# Altium footprint library PCB2021.01270750.PcbLib: 52 footprints (part 1 of 4)
Each footprint in its own frame and in the unit in brackets; x right, y up, seen from the top. Pads: shape width x height; smd on the part's side, far side on the other; paste and mask are expansions set on the pad; w line width, h text height; cw(c..) or ccw(c..) is an arc to the next point about the centre after c.
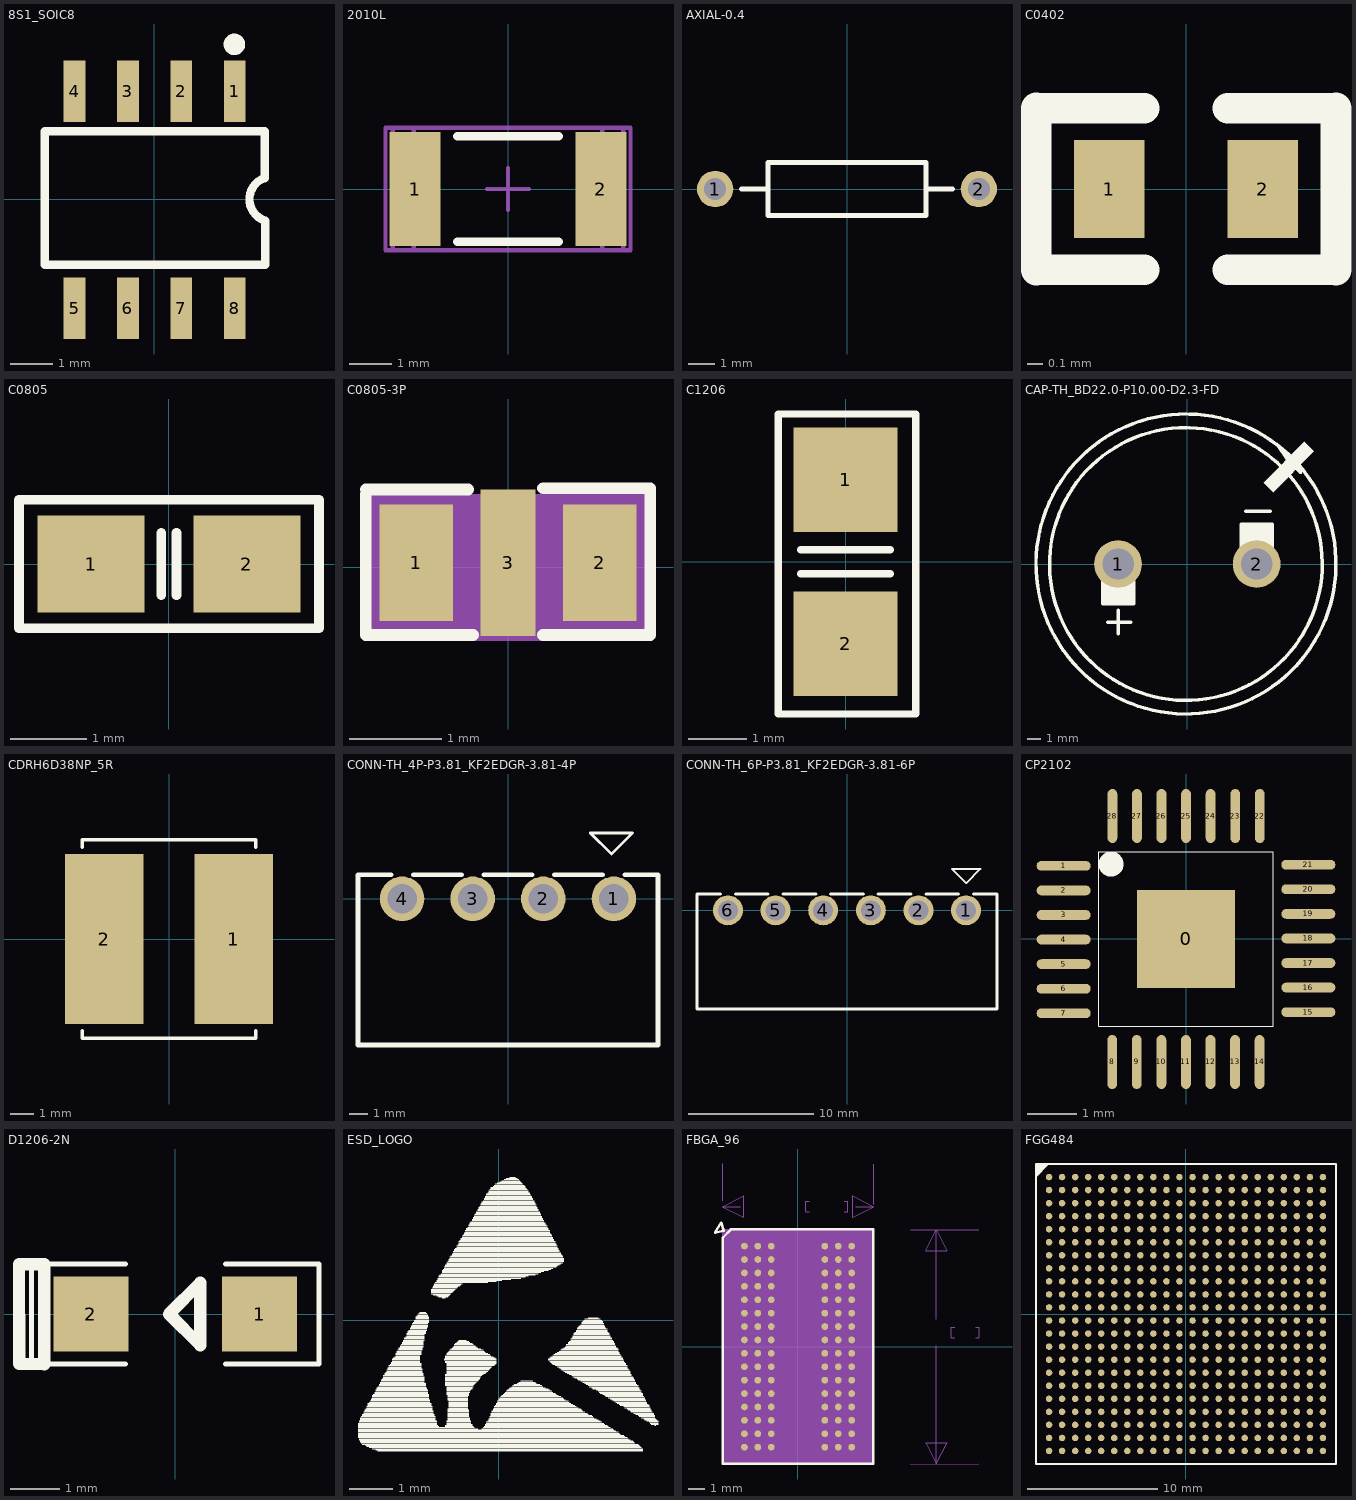
[diagram p0: the footprints below, top view; thin cyan lines are the x and y axes]

## 8S1_SOIC8 [mm] "8S1_SOIC8"
pads (8):
  rect 0.518x1.458 smd: 1(1.912,2.564) 2(0.642,2.564) 3(-0.628,2.564) 4(-1.898,2.564) 5(-1.898,-2.595) 6(-0.628,-2.595) 7(0.642,-2.595) 8(1.912,-2.595)
Top Overlay:
  circle w0.254: c1.905,3.683 r0.128
  lines w0.2: 2.625,0.504 ccw(c2.794,0) 2.637,-0.508
  lines w0.203: 2.625,0.504 2.625,1.615 -2.608,1.615 -2.608,-1.557 2.638,-1.557 2.638,-0.655 2.638,-0.508

## 2010L [mm] "pitch=4.3mm"
height 0.71
pads (2):
  rect 1.2x2.7 smd: 1(-2.2,0) 2(2.2,0)
Top Overlay:
  lines w0.2: -1.2,-1.25 1.2,-1.25 ; -1.2,1.25 1.2,1.25
Mechanical 5:
  lines w0.1: -2.73,-1.45 -2.73,1.45 2.73,1.45 2.73,-1.45 -2.73,-1.45
  text ".Designator" at 4.191,-0.508 h0.25
Mechanical 13:
  lines w0.1: -2.23,-1.45 -2.23,1.45 ; 2.23,-1.45 2.23,1.45 ; -2.73,-1.45 2.73,-1.45 2.73,1.45 -2.73,1.45 -2.73,-1.45
Mechanical 15:
  lines w0.1: -0.5,0 0.5,0 ; 0,-0.5 0,0.5 ; -2.9,-1.45 -2.9,1.45 2.9,1.45 2.9,-1.45 -2.9,-1.45
3D body: height 1.66, standoff 0, extent -2.729,-1.449 -2.231,1.449
3D body: height 1.66, standoff 0, extent -2.229,-1.449 2.229,1.449
3D body: height 1.66, standoff 0, extent 2.231,-1.449 2.729,1.449

## AXIAL-0.4 [mm] "Axial Device, Thru-Hole; 2 Leads; 0.4 in Pin Spacing"
height 2.032
pads (2):
  round 1.4 hole 0.85: 1(-5.08,0) 2(5.08,0)
Top Overlay:
  lines w0.2: -4.064,0 -3.048,0 ; 3.048,0 4.064,0 ; -3.048,-1.016 3.048,-1.016 3.048,1.016 -3.048,1.016 -3.048,-1.016

## C0402 [mil] "C0402"
pads (2):
  rect 18x25 smd: 1(-19.69,0) 2(19.69,0)
Top Overlay:
  lines w7.87: -38.43,-20.69 -10.69,-20.69 ; -38.43,20.69 -10.69,20.69 ; 10.69,-20.69 38.43,-20.69 ; 10.69,20.69 38.43,20.69
  lines w8: -38.43,-20.69 -38.43,20.69 ; 38.43,-20.69 38.43,20.69

## C0805 [mil]
pads (2):
  rect 55x50 smd: 1(-40,0) 2(40,0)
Top Overlay:
  lines w5: -4,-16 -4,16 ; 3.87,-16 3.87,16 ; -77,-33 77,-33 77,33 -77,33 -77,-33

## C0805-3P [mm] "C0805，NFM or NFL"
pads (3):
  rect 0.8x1.27 smd: 1(-1,0.051) 2(1,0.051)
  rect 0.6x1.6 smd: 3(0,0.051)
Top Overlay:
  lines w0.127: -1.549,-0.737 -0.381,-0.737 ; -1.549,-0.724 -1.549,0.8 ; -1.549,0.851 -0.432,0.851 ; 0.381,-0.737 1.549,-0.737 ; 0.381,0.864 1.549,0.864 1.549,-0.711
Mechanical 10:
  text "1" at -0.838,-0.203 h0.25
  text "2" at 0.838,-0.203 h0.25
Mechanical 12:
  region: -1.549,-0.787 1.549,-0.787 1.549,0.787 -1.549,0.787
Mechanical 13:
  lines w0.025: -1.549,-0.787 1.549,-0.787 1.549,0.787 -1.549,0.787 -1.549,-0.787
3D body: height 3.81, standoff 0, extent -1.549,-0.787 1.549,0.787

## C1206 [mil]
pads (2):
  rect 70x70 smd: 1(0,55) 2(0,-55)
Top Overlay:
  lines w5: -30,-8 30,-8 ; -30,8 30,8 ; -45,-102 -45,99 47,99 47,-102 -45,-102

## CAP-TH_BD22.0-P10.00-D2.3-FD [mm]
height 0.8
pads (2):
  round 3.5 hole 2.3: 1(-5.08,0) 2(5.08,0)
Top Overlay:
  region: -4.008,-1.146 -6.167,-1.146 -6.167,-2.797 -4.008,-2.797
  region: 6.477,8.763 6.985,8.382 7.239,8.255 8.128,7.366 8.128,7.239 8.509,6.858 8.382,6.731 8.382,6.604 8.255,6.604 7.239,7.62
  region: 3.892,2.854 6.178,2.854 6.178,1.33 3.892,1.33
  region: 5.588,5.969 8.572,8.953 9.271,8.255 6.286,5.27
  lines w0.254: -6.223,-1.27 -6.223,-2.921 -3.937,-2.921 -3.937,-1.27 ; -5.842,-4.267 -4.166,-4.267 ; -5.055,-5.105 -5.055,-3.378 ; -0.051,10 ccw(c-0.108,0) 0.124,9.997 ; -0.051,11.001 ccw(c-0.099,0.001) 0.142,10.998 ; 3.937,1.27 3.937,2.921 6.223,2.921 6.223,1.27 ; 4.292,3.854 6.07,3.854

## CDRH6D38NP_5R [mm] "CDRH6D38NP_5R,magnetica shield,7x7mm"
height 4
pads (2):
  rect 3.424x7.42 smd: 1(2.828,0) 2(-2.828,0)
Top Overlay:
  lines w0.152: -3.776,-3.989 -3.776,-4.318 3.776,-4.318 3.776,-3.989 ; -3.776,3.989 -3.776,4.318 3.776,4.318 3.776,3.989

## CONN-TH_4P-P3.81_KF2EDGR-3.81-4P [mm]
pads (4):
  round 2.4 hole 1.6: 1(5.715,0) 2(1.905,0) 3(-1.905,0) 4(-5.715,0)
Top Overlay:
  lines w0.152: 4.445,3.556 5.588,2.413 6.731,3.556 4.445,3.556
  lines w0.254: -6.31,1.3 -8.1,1.3 -8.1,-7.9 8.1,-7.9 8.1,1.3 6.31,1.3 ; -5.12,1.3 -2.5,1.3 ; -1.31,1.3 1.31,1.3 ; 2.5,1.3 5.12,1.3

## CONN-TH_6P-P3.81_KF2EDGR-3.81-6P [mm]
pads (6):
  round 2.4 hole 1.6: 1(9.525,0) 2(5.715,0) 3(1.905,0) 4(-1.905,0) 5(-5.715,0) 6(-9.525,0)
Top Overlay:
  lines w0.152: 8.382,3.302 9.525,2.159 10.668,3.302 8.382,3.302
  lines w0.254: -10.12,1.3 -12,1.3 -12,-7.9 12,-7.9 12,1.3 10.12,1.3 ; -8.93,1.3 -6.31,1.3 ; -5.12,1.3 -2.5,1.3 ; -1.31,1.3 1.31,1.3 ; 2.5,1.3 5.12,1.3 ; 6.31,1.3 8.93,1.3

## CP2102 [mm]
height 1.1
pads (29):
  rect 2x2 smd: 0(0,0)
  oval 1.1x0.2 smd: 1(-2.489,1.489) 2(-2.489,0.989) 3(-2.489,0.489) 4(-2.489,-0.011) 5(-2.489,-0.511) 6(-2.489,-1.011) 7(-2.489,-1.511) 15(2.489,-1.489) 16(2.489,-0.989) 17(2.489,-0.489) 18(2.489,0.011) 19(2.489,0.511) 20(2.489,1.011) 21(2.489,1.511)
  oval 0.2x1.1 smd: 8(-1.501,-2.502) 9(-1.001,-2.502) 10(-0.501,-2.502) 11(-0.001,-2.502) 12(0.499,-2.502) 13(0.999,-2.502) 14(1.499,-2.502) 22(1.501,2.502) 23(1.001,2.502) 24(0.501,2.502) 25(0.001,2.502) 26(-0.499,2.502) 27(-0.999,2.502) 28(-1.499,2.502)
Top Overlay:
  circle w0.254: c-1.524,1.524 r0.127
  lines w0.025: -1.778,-1.778 -1.778,1.778 1.778,1.778 1.778,-1.778 -1.778,-1.778

## D1206-2N [mil]
height 39.37
pads (2):
  rect 60x60 smd: 1(67.5,0) 2(-67.5,0)
Top Overlay:
  lines w4: -40,-40 -115,-40 -115,40 -40,40 ; 40,-40 115,-40 115,40 40,40
  lines w10: -125,-40 -105,-40 -105,40 -125,40 -125,-40 ; -5,0 20,25 20,-25 -5,0

## ESD_LOGO [mm]
height 1.1
Top Overlay:
  drawing of 457 lines, arcs and shapes, not listed

## FBGA_96 [mil] "FBGA_96"
pads (96):
  round 15.75 smd: A1(-125.5,236.22) A2(-94,236.22) A3(-62.51,236.22) A7(63.48,236.22) A8(94.97,236.22) A9(126.47,236.22) B1(-125.5,204.72) B2(-94,204.72) B3(-62.51,204.72) B7(63.48,204.72) B8(94.97,204.72) B9(126.47,204.72) C1(-125.5,173.23) C2(-94,173.23) C3(-62.51,173.23) C7(63.48,173.23) C8(94.97,173.23) C9(126.47,173.23) D1(-125.5,141.73) D2(-94,141.73) D3(-62.51,141.73) D7(63.48,141.73) D8(94.97,141.73) D9(126.47,141.73) E1(-125.5,110.24) E2(-94,110.24) E3(-62.51,110.24) E7(63.48,110.24) E8(94.97,110.24) E9(126.47,110.24) F1(-125.5,78.74) F2(-94,78.74) F3(-62.51,78.74) F7(63.48,78.74) F8(94.97,78.74) F9(126.47,78.74) G1(-125.5,47.24) G2(-94,47.24) G3(-62.51,47.24) G7(63.48,47.24) G8(94.97,47.24) G9(126.47,47.24) H1(-125.5,15.75) H2(-94,15.75) H3(-62.51,15.75) H7(63.48,15.75) H8(94.97,15.75) H9(126.47,15.75) J1(-125.5,-15.75) J2(-94,-15.75) J3(-62.51,-15.75) J7(63.48,-15.75) J8(94.97,-15.75) J9(126.47,-15.75) K1(-125.5,-47.24) K2(-94,-47.24) K3(-62.51,-47.24) K7(63.48,-47.24) K8(94.97,-47.24) K9(126.47,-47.24) L1(-125.5,-78.74) L2(-94,-78.74) L3(-62.51,-78.74) L7(63.48,-78.74) L8(94.97,-78.74) L9(126.47,-78.74) M1(-125.5,-110.24) M2(-94,-110.24) M3(-62.51,-110.24) M7(63.48,-110.24) M8(94.97,-110.24) M9(126.47,-110.24) N1(-125.5,-141.73) N2(-94,-141.73) N3(-62.51,-141.73) N7(63.48,-141.73) N8(94.97,-141.73) N9(126.47,-141.73) P1(-125.5,-173.23) P2(-94,-173.23) P3(-62.51,-173.23) P7(63.48,-173.23) P8(94.97,-173.23) P9(126.47,-173.23) R1(-125.5,-204.72) R2(-94,-204.72) R3(-62.51,-204.72) R7(63.48,-204.72) R8(94.97,-204.72) R9(126.47,-204.72) T1(-125.5,-236.22) T2(-94,-236.22) T3(-62.51,-236.22) T7(63.48,-236.22) T8(94.97,-236.22) T9(126.47,-236.22)
Top Overlay:
  lines w5: -175.37,257.22 -158.43,274.15
  lines w6: -176.68,256.22 -176.68,-275.59 177.65,-275.59 177.65,275.59 -157.5,275.59 ; -194.5,268.22 -180.5,291.22 -174.5,272.22 -194.5,268.22
Mechanical 8:
  text "G2" at -94,27.24 h25
  text "F8" at 94.97,58.74 h25
  text "A7" at 63.48,216.22 h25
  text "C3" at -62.51,153.23 h25
  text "F2" at -94,58.74 h25
  text "G3" at -62.51,27.24 h25
  text "H3" at -62.51,-4.25 h25
  text "T7" at 63.48,-256.22 h25
  text "L8" at 94.97,-98.74 h25
  text "D7" at 63.48,121.73 h25
  text "E3" at -62.51,90.24 h25
  text "F7" at 63.48,58.74 h25
  text "C2" at -94,153.23 h25
  text "E7" at 63.48,90.24 h25
  text "C7" at 63.48,153.23 h25
  text "M8" at 94.97,-130.24 h25
  text "H1" at -125.5,-4.25 h25
  text "D3" at -62.51,121.73 h25
  text "R9" at 126.47,-224.72 h25
  text "K8" at 94.97,-67.24 h25
  text "N9" at 126.47,-161.73 h25
  text "H9" at 126.47,-4.25 h25
  text "E9" at 126.47,90.24 h25
  text "D9" at 126.47,121.73 h25
  text "C9" at 126.47,153.23 h25
  text "G7" at 63.48,27.24 h25
  text "A8" at 94.97,216.22 h25
  text "R1" at -125.5,-224.72 h25
  text "K2" at -94,-67.24 h25
  text "N1" at -125.5,-161.73 h25
  text "F1" at -125.5,58.74 h25
  text "A1" at -125.5,216.22 h25
  text "C1" at -125.5,153.23 h25
  text "B2" at -94,184.72 h25
  text "D2" at -94,121.73 h25
  text "H2" at -94,-4.25 h25
  text "A2" at -94,216.22 h25
  text "H8" at 94.97,-4.25 h25
  text "C8" at 94.97,153.23 h25
  text "T2" at -94,-256.22 h25
  text "J7" at 63.48,-35.75 h25
  text "B8" at 94.97,184.72 h25
  text "K7" at 63.48,-67.24 h25
  text "A3" at -62.51,216.22 h25
  text "H7" at 63.48,-4.25 h25
  text "B7" at 63.48,184.72 h25
  text "F3" at -62.51,58.74 h25
  text "J1" at -125.5,-35.75 h25
  text "J9" at 126.47,-35.75 h25
  text "L1" at -125.5,-98.74 h25
  text "L9" at 126.47,-98.74 h25
  text "M7" at 63.48,-130.24 h25
  text "K1" at -125.5,-67.24 h25
  text "K3" at -62.51,-67.24 h25
  text "M2" at -94,-130.24 h25
  text "M3" at -62.51,-130.24 h25
  text "L3" at -62.51,-98.74 h25
  text "L2" at -94,-98.74 h25
  text "J3" at -62.51,-35.75 h25
  text "N7" at 63.48,-161.73 h25
  text "K9" at 126.47,-67.24 h25
  text "R3" at -62.51,-224.72 h25
  text "P7" at 63.48,-193.23 h25
  text "L7" at 63.48,-98.74 h25
  text "R2" at -94,-224.72 h25
  text "T3" at -62.51,-256.22 h25
  text "P3" at -62.51,-193.23 h25
  text "T8" at 94.97,-256.22 h25
  text "R7" at 63.48,-224.72 h25
  text "P2" at -94,-193.23 h25
  text "R8" at 94.97,-224.72 h25
  text "N2" at -94,-161.73 h25
  text "P8" at 94.97,-193.23 h25
  text "N3" at -62.51,-161.73 h25
  text "N8" at 94.97,-161.73 h25
  text "T9" at 126.47,-256.22 h25
  text "P9" at 126.47,-193.23 h25
  text "M9" at 126.47,-130.24 h25
  text "J8" at 94.97,-35.75 h25
  text "E8" at 94.97,90.24 h25
  text "F9" at 126.47,58.74 h25
  text "G9" at 126.47,27.24 h25
  text "G8" at 94.97,27.24 h25
  text "D8" at 94.97,121.73 h25
  text "B9" at 126.47,184.72 h25
  text "A9" at 126.47,216.22 h25
  text "B3" at -62.51,184.72 h25
  text "T1" at -125.5,-256.22 h25
  text "P1" at -125.5,-193.23 h25
  text "M1" at -125.5,-130.24 h25
  text "J2" at -94,-35.75 h25
  text "G1" at -125.5,27.24 h25
  text "E2" at -94,90.24 h25
  text "E1" at -125.5,90.24 h25
  text "D1" at -125.5,121.73 h25
  text "B1" at -125.5,184.72 h25
Mechanical 9:
  lines w1: -177.5,343.22 -177.5,429.22 ; -135.25,329.22 -177.5,329.22 ; 26.5,316.72 18.5,316.72 18.5,341.72 26.5,341.72 ; 109.5,316.72 117.5,316.72 117.5,341.72 109.5,341.72 ; 136.25,329.22 178.5,329.22 ; 178.5,334.22 178.5,429.22 ; 265.5,-275.78 425.5,-275.78 ; 265.5,275.22 425.5,275.22 ; 325.5,1.97 325.5,-275.78 ; 325.5,64.47 325.5,275.22 ; 368.5,20.72 360.5,20.72 360.5,45.72 368.5,45.72 ; 417.5,20.72 425.5,20.72 425.5,45.72 417.5,45.72 ; -177.5,329.22 -127.5,354.22 -127.5,304.22 -177.5,329.22 ; 178.5,329.22 128.5,304.22 128.5,354.22 178.5,329.22 ; 325.5,-275.78 300.5,-225.78 350.5,-225.78 325.5,-275.78 ; 325.5,275.22 350.5,225.22 300.5,225.22 325.5,275.22
  text "356.00" at -116.5,316.72 h25
  text "9.04" at 34.5,316.72 h25
  text "551.00" at 225.5,20.72 h25
  text "14" at 376.5,20.72 h25
Mechanical 12:
  region: -177.5,275.59 -177.5,-275.59 177.5,-275.59 177.5,275.59
3D body: height 150, standoff 0, extent -177.5,-275.59 177.5,275.59

## FGG484 [mm] "FGG484"
pads (484):
  round 0.5 smd: A1(-10.5,10.5) A2(-9.5,10.5) A3(-8.5,10.5) A4(-7.5,10.5) A5(-6.5,10.5) A6(-5.5,10.5) A7(-4.5,10.5) A8(-3.5,10.5) A9(-2.5,10.5) A10(-1.5,10.5) A11(-0.5,10.5) A12(0.5,10.5) A13(1.5,10.5) A14(2.5,10.5) A15(3.5,10.5) A16(4.5,10.5) A17(5.5,10.5) A18(6.5,10.5) A19(7.5,10.5) A20(8.5,10.5) A21(9.5,10.5) A22(10.5,10.5) AA1(-10.5,-9.5) AA2(-9.5,-9.5) AA3(-8.5,-9.5) AA4(-7.5,-9.5) AA5(-6.5,-9.5) AA6(-5.5,-9.5) AA7(-4.5,-9.5) AA8(-3.5,-9.5) AA9(-2.5,-9.5) AA10(-1.5,-9.5) AA11(-0.5,-9.5) AA12(0.5,-9.5) AA13(1.5,-9.5) AA14(2.5,-9.5) AA15(3.5,-9.5) AA16(4.5,-9.5) AA17(5.5,-9.5) AA18(6.5,-9.5) AA19(7.5,-9.5) AA20(8.5,-9.5) AA21(9.5,-9.5) AA22(10.5,-9.5) AB1(-10.5,-10.5) AB2(-9.5,-10.5) AB3(-8.5,-10.5) AB4(-7.5,-10.5) AB5(-6.5,-10.5) AB6(-5.5,-10.5) AB7(-4.5,-10.5) AB8(-3.5,-10.5) AB9(-2.5,-10.5) AB10(-1.5,-10.5) AB11(-0.5,-10.5) AB12(0.5,-10.5) AB13(1.5,-10.5) AB14(2.5,-10.5) AB15(3.5,-10.5) AB16(4.5,-10.5) AB17(5.5,-10.5) AB18(6.5,-10.5) AB19(7.5,-10.5) AB20(8.5,-10.5) AB21(9.5,-10.5) AB22(10.5,-10.5) B1(-10.5,9.5) B2(-9.5,9.5) B3(-8.5,9.5) B4(-7.5,9.5) B5(-6.5,9.5) B6(-5.5,9.5) B7(-4.5,9.5) B8(-3.5,9.5) B9(-2.5,9.5) B10(-1.5,9.5) B11(-0.5,9.5) B12(0.5,9.5) B13(1.5,9.5) B14(2.5,9.5) B15(3.5,9.5) B16(4.5,9.5) B17(5.5,9.5) B18(6.5,9.5) B19(7.5,9.5) B20(8.5,9.5) B21(9.5,9.5) B22(10.5,9.5) C1(-10.5,8.5) C2(-9.5,8.5) C3(-8.5,8.5) C4(-7.5,8.5) C5(-6.5,8.5) C6(-5.5,8.5) C7(-4.5,8.5) C8(-3.5,8.5) C9(-2.5,8.5) C10(-1.5,8.5) C11(-0.5,8.5) C12(0.5,8.5) C13(1.5,8.5) C14(2.5,8.5) C15(3.5,8.5) C16(4.5,8.5) C17(5.5,8.5) C18(6.5,8.5) C19(7.5,8.5) C20(8.5,8.5) C21(9.5,8.5) C22(10.5,8.5) D1(-10.5,7.5) D2(-9.5,7.5) D3(-8.5,7.5) D4(-7.5,7.5) D5(-6.5,7.5) D6(-5.5,7.5) D7(-4.5,7.5) D8(-3.5,7.5) D9(-2.5,7.5) D10(-1.5,7.5) D11(-0.5,7.5) D12(0.5,7.5) D13(1.5,7.5) D14(2.5,7.5) D15(3.5,7.5) D16(4.5,7.5) D17(5.5,7.5) D18(6.5,7.5) D19(7.5,7.5) D20(8.5,7.5) D21(9.5,7.5) D22(10.5,7.5) E1(-10.5,6.5) E2(-9.5,6.5) E3(-8.5,6.5) E4(-7.5,6.5) E5(-6.5,6.5) E6(-5.5,6.5) E7(-4.5,6.5) E8(-3.5,6.5) E9(-2.5,6.5) E10(-1.5,6.5) E11(-0.5,6.5) E12(0.5,6.5) E13(1.5,6.5) E14(2.5,6.5) E15(3.5,6.5) E16(4.5,6.5) E17(5.5,6.5) E18(6.5,6.5) E19(7.5,6.5) E20(8.5,6.5) E21(9.5,6.5) E22(10.5,6.5) F1(-10.5,5.5) F2(-9.5,5.5) F3(-8.5,5.5) F4(-7.5,5.5) F5(-6.5,5.5) F6(-5.5,5.5) F7(-4.5,5.5) F8(-3.5,5.5) F9(-2.5,5.5) F10(-1.5,5.5) F11(-0.5,5.5) F12(0.5,5.5) F13(1.5,5.5) F14(2.5,5.5) F15(3.5,5.5) F16(4.5,5.5) F17(5.5,5.5) F18(6.5,5.5) F19(7.5,5.5) F20(8.5,5.5) F21(9.5,5.5) F22(10.5,5.5) G1(-10.5,4.5) G2(-9.5,4.5) G3(-8.5,4.5) G4(-7.5,4.5) G5(-6.5,4.5) G6(-5.5,4.5) G7(-4.5,4.5) G8(-3.5,4.5) G9(-2.5,4.5) G10(-1.5,4.5) G11(-0.5,4.5) G12(0.5,4.5) G13(1.5,4.5) G14(2.5,4.5) G15(3.5,4.5) G16(4.5,4.5) G17(5.5,4.5) G18(6.5,4.5) G19(7.5,4.5) G20(8.5,4.5) G21(9.5,4.5) G22(10.5,4.5) H1(-10.5,3.5) H2(-9.5,3.5) H3(-8.5,3.5) H4(-7.5,3.5) H5(-6.5,3.5) H6(-5.5,3.5) H7(-4.5,3.5) H8(-3.5,3.5) H9(-2.5,3.5) H10(-1.5,3.5) H11(-0.5,3.5) H12(0.5,3.5) H13(1.5,3.5) H14(2.5,3.5) H15(3.5,3.5) H16(4.5,3.5) H17(5.5,3.5) H18(6.5,3.5) H19(7.5,3.5) H20(8.5,3.5) H21(9.5,3.5) H22(10.5,3.5) J1(-10.5,2.5) J2(-9.5,2.5) J3(-8.5,2.5) J4(-7.5,2.5) J5(-6.5,2.5) J6(-5.5,2.5) J7(-4.5,2.5) J8(-3.5,2.5) J9(-2.5,2.5) J10(-1.5,2.5) J11(-0.5,2.5) J12(0.5,2.5) J13(1.5,2.5) J14(2.5,2.5) J15(3.5,2.5) J16(4.5,2.5) J17(5.5,2.5) J18(6.5,2.5) J19(7.5,2.5) J20(8.5,2.5) J21(9.5,2.5) J22(10.5,2.5) K1(-10.5,1.5) K2(-9.5,1.5) K3(-8.5,1.5) K4(-7.5,1.5) K5(-6.5,1.5) K6(-5.5,1.5) K7(-4.5,1.5) K8(-3.5,1.5) K9(-2.5,1.5) K10(-1.5,1.5) K11(-0.5,1.5) K12(0.5,1.5) K13(1.5,1.5) K14(2.5,1.5) K15(3.5,1.5) K16(4.5,1.5) K17(5.5,1.5) K18(6.5,1.5) K19(7.5,1.5) K20(8.5,1.5) K21(9.5,1.5) K22(10.5,1.5) L1(-10.5,0.5) L2(-9.5,0.5) L3(-8.5,0.5) L4(-7.5,0.5) L5(-6.5,0.5) L6(-5.5,0.5) L7(-4.5,0.5) L8(-3.5,0.5) L9(-2.5,0.5) L10(-1.5,0.5) L11(-0.5,0.5) L12(0.5,0.5) L13(1.5,0.5) L14(2.5,0.5) L15(3.5,0.5) L16(4.5,0.5) L17(5.5,0.5) L18(6.5,0.5) L19(7.5,0.5) L20(8.5,0.5) L21(9.5,0.5) L22(10.5,0.5) M1(-10.5,-0.5) M2(-9.5,-0.5) M3(-8.5,-0.5) M4(-7.5,-0.5) M5(-6.5,-0.5) M6(-5.5,-0.5) M7(-4.5,-0.5) M8(-3.5,-0.5) M9(-2.5,-0.5) M10(-1.5,-0.5) M11(-0.5,-0.5) M12(0.5,-0.5) M13(1.5,-0.5) M14(2.5,-0.5) M15(3.5,-0.5) M16(4.5,-0.5) M17(5.5,-0.5) M18(6.5,-0.5) M19(7.5,-0.5) M20(8.5,-0.5) M21(9.5,-0.5) M22(10.5,-0.5) N1(-10.5,-1.5) N2(-9.5,-1.5) N3(-8.5,-1.5) N4(-7.5,-1.5) N5(-6.5,-1.5) N6(-5.5,-1.5) N7(-4.5,-1.5) N8(-3.5,-1.5) N9(-2.5,-1.5) N10(-1.5,-1.5) N11(-0.5,-1.5) N12(0.5,-1.5) N13(1.5,-1.5) N14(2.5,-1.5) N15(3.5,-1.5) N16(4.5,-1.5) N17(5.5,-1.5) N18(6.5,-1.5) N19(7.5,-1.5) N20(8.5,-1.5) N21(9.5,-1.5) N22(10.5,-1.5) P1(-10.5,-2.5) P2(-9.5,-2.5) P3(-8.5,-2.5) P4(-7.5,-2.5) P5(-6.5,-2.5) P6(-5.5,-2.5) P7(-4.5,-2.5) P8(-3.5,-2.5) P9(-2.5,-2.5) P10(-1.5,-2.5) P11(-0.5,-2.5) P12(0.5,-2.5) P13(1.5,-2.5) P14(2.5,-2.5) P15(3.5,-2.5) P16(4.5,-2.5) P17(5.5,-2.5) P18(6.5,-2.5) P19(7.5,-2.5) P20(8.5,-2.5) P21(9.5,-2.5) P22(10.5,-2.5) R1(-10.5,-3.5) R2(-9.5,-3.5) R3(-8.5,-3.5) R4(-7.5,-3.5) R5(-6.5,-3.5) R6(-5.5,-3.5) R7(-4.5,-3.5) R8(-3.5,-3.5) R9(-2.5,-3.5) R10(-1.5,-3.5) R11(-0.5,-3.5) R12(0.5,-3.5) R13(1.5,-3.5) R14(2.5,-3.5) R15(3.5,-3.5) R16(4.5,-3.5) R17(5.5,-3.5) R18(6.5,-3.5) R19(7.5,-3.5) R20(8.5,-3.5) R21(9.5,-3.5) R22(10.5,-3.5) T1(-10.5,-4.5) T2(-9.5,-4.5) T3(-8.5,-4.5) T4(-7.5,-4.5) T5(-6.5,-4.5) T6(-5.5,-4.5) T7(-4.5,-4.5) T8(-3.5,-4.5) T9(-2.5,-4.5) T10(-1.5,-4.5) T11(-0.5,-4.5) T12(0.5,-4.5) T13(1.5,-4.5) T14(2.5,-4.5) T15(3.5,-4.5) T16(4.5,-4.5) T17(5.5,-4.5) T18(6.5,-4.5) T19(7.5,-4.5) T20(8.5,-4.5) T21(9.5,-4.5) T22(10.5,-4.5) U1(-10.5,-5.5) U2(-9.5,-5.5) U3(-8.5,-5.5) U4(-7.5,-5.5) U5(-6.5,-5.5) U6(-5.5,-5.5) U7(-4.5,-5.5) U8(-3.5,-5.5) U9(-2.5,-5.5) U10(-1.5,-5.5) U11(-0.5,-5.5) U12(0.5,-5.5) U13(1.5,-5.5) U14(2.5,-5.5) U15(3.5,-5.5) U16(4.5,-5.5) U17(5.5,-5.5) U18(6.5,-5.5) U19(7.5,-5.5) U20(8.5,-5.5) U21(9.5,-5.5) U22(10.5,-5.5) V1(-10.5,-6.5) V2(-9.5,-6.5) V3(-8.5,-6.5) V4(-7.5,-6.5) V5(-6.5,-6.5) V6(-5.5,-6.5) V7(-4.5,-6.5) V8(-3.5,-6.5) V9(-2.5,-6.5) V10(-1.5,-6.5) V11(-0.5,-6.5) V12(0.5,-6.5) V13(1.5,-6.5) V14(2.5,-6.5) V15(3.5,-6.5) V16(4.5,-6.5) V17(5.5,-6.5) V18(6.5,-6.5) V19(7.5,-6.5) V20(8.5,-6.5) V21(9.5,-6.5) V22(10.5,-6.5) W1(-10.5,-7.5) W2(-9.5,-7.5) W3(-8.5,-7.5) W4(-7.5,-7.5) W5(-6.5,-7.5) W6(-5.5,-7.5) W7(-4.5,-7.5) W8(-3.5,-7.5) W9(-2.5,-7.5) W10(-1.5,-7.5) W11(-0.5,-7.5) W12(0.5,-7.5) W13(1.5,-7.5) W14(2.5,-7.5) W15(3.5,-7.5) W16(4.5,-7.5) W17(5.5,-7.5) W18(6.5,-7.5) W19(7.5,-7.5) W20(8.5,-7.5) W21(9.5,-7.5) W22(10.5,-7.5) Y1(-10.5,-8.5) Y2(-9.5,-8.5) Y3(-8.5,-8.5) Y4(-7.5,-8.5) Y5(-6.5,-8.5) Y6(-5.5,-8.5) Y7(-4.5,-8.5) Y8(-3.5,-8.5) Y9(-2.5,-8.5) Y10(-1.5,-8.5) Y11(-0.5,-8.5) Y12(0.5,-8.5) Y13(1.5,-8.5) Y14(2.5,-8.5) Y15(3.5,-8.5) Y16(4.5,-8.5) Y17(5.5,-8.5) Y18(6.5,-8.5) Y19(7.5,-8.5) Y20(8.5,-8.5) Y21(9.5,-8.5) Y22(10.5,-8.5)
Top Layer:
  lines w0.305: 10.5,0.5 10.584,0.584 ; 1.5,2.5 1.5,2.5 ; 1.5,7.5 1.5,7.5 ; 5.5,5.5 5.5,5.5
Top Overlay:
  lines w0.152: -10.693,11.455 -11.481,10.566 -10.643,11.43 -11.481,10.617 -10.82,11.481 -11.481,10.82 -10.998,11.481 -11.455,10.897 -11.481,11.074 ; -11.481,11.074 -11.303,11.481 -11.481,11.252 -11.125,11.455 -11.481,11.074 ; -11.5,-11.5 11.5,-11.5 11.5,11.5 -11.5,11.5 -11.5,-11.5